# Altium footprint library ST.PcbLib: 1 footprints
Each footprint in its own frame and in the unit in brackets; x right, y up, seen from the top. Pads: shape width x height; smd on the part's side, far side on the other; paste and mask are expansions set on the pad; w line width, h text height; cw(c..) or ccw(c..) is an arc to the next point about the centre after c.
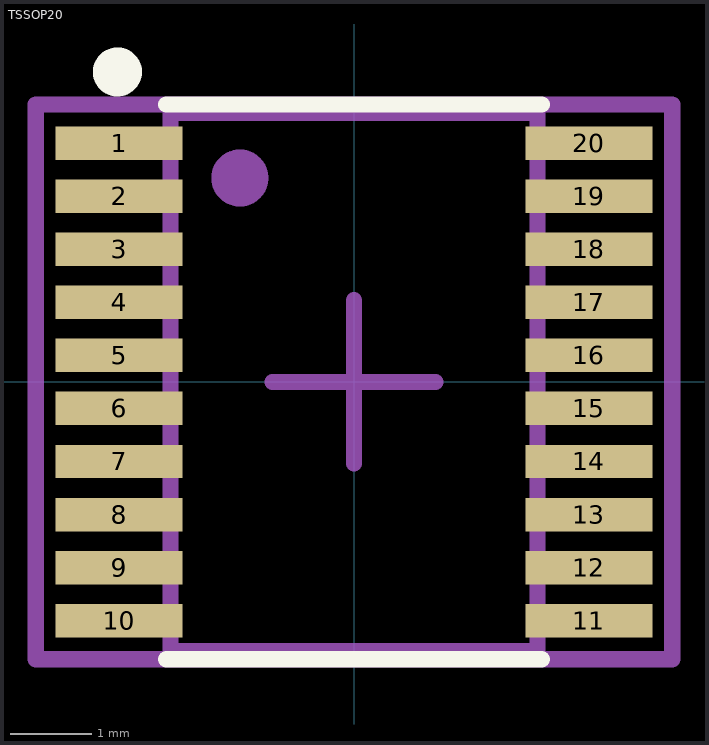
[diagram p0: the footprint, top view; thin cyan lines are the x and y axes]

## TSSOP20 [mm] "TSSOP20"
pads (20):
  rect 1.56x0.41 smd: 1(-2.88,2.925) 2(-2.88,2.275) 3(-2.88,1.625) 4(-2.88,0.975) 5(-2.88,0.325) 6(-2.88,-0.325) 7(-2.88,-0.975) 8(-2.88,-1.625) 9(-2.88,-2.275) 10(-2.88,-2.925) 11(2.88,-2.925) 12(2.88,-2.275) 13(2.88,-1.625) 14(2.88,-0.975) 15(2.88,-0.325) 16(2.88,0.325) 17(2.88,0.975) 18(2.88,1.625) 19(2.88,2.275) 20(2.88,2.925)
Top Overlay:
  circle w0.4: c-2.9,3.8 r0.1
  lines w0.2: -2.3,-3.4 2.3,-3.4 ; -2.3,3.4 2.3,3.4
Top 3D Body:
  circle w0.5: c-1.4,2.5 r0.1
  lines w0.2: -2.25,-3.3 2.25,-3.3 2.25,3.3 -2.25,3.3 -2.25,-3.3
Top Assembly:
  lines w0.2: -1,0 1,0 ; 0,-1 0,1 ; -3.9,-3.4 -3.9,3.4 3.9,3.4 3.9,-3.4 -3.9,-3.4
3D body "ST_TSSOP20.step": height 1.25, standoff 0.05, extent -3.302,-3.302 3.302,3.302